# EAGLE library part MAX2470 (library MAX2470)
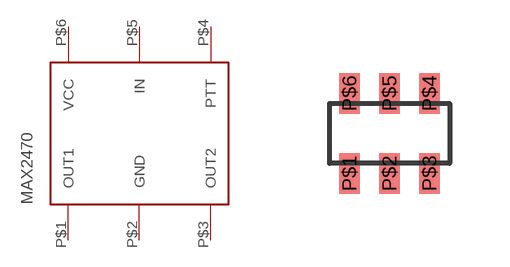
[diagram p0: symbol with the pads of MAX2470; footprint MAX2470]

Designator prefix -

## MAX2470  [MAX2470]
P$1  OUT1
P$2  GND
P$3  OUT2
P$4  PTT
P$5  IN
P$6  VCC

## Footprint MAX2470 (pad centres in mm)
smd 0.508 x 1.016: P$1 -1,-1; P$2 0,-1; P$3 1,-1; P$4 1,1; P$5 0,1; P$6 -1,1